# Altium integrated library Linear Technology Operational Amplifiers (LT1000).IntLib: 2280 symbols (part 9 of 79)
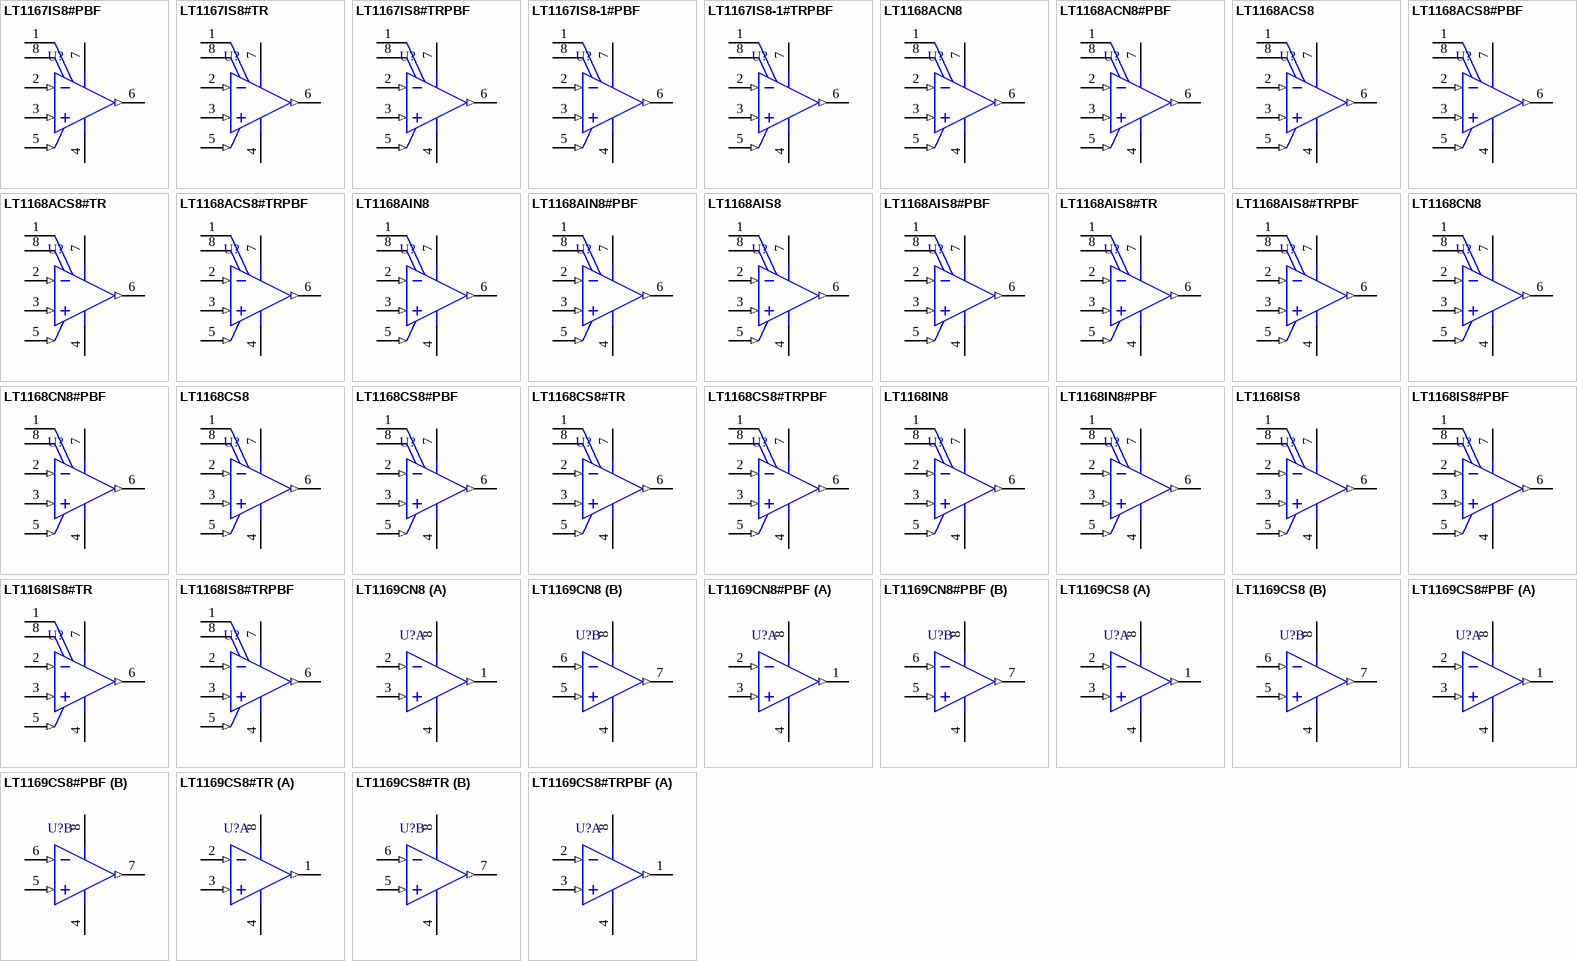
[diagram p113: symbols LT1167IS8#PBF to LT1169CS8#TRPBF]

## LT1168IN8#PBF
designator U?
Single Channel, Low Bias Current, Low Power, Precision Operational Amplifier, 0.4 MHz Typical GBW, 0.5 V/us Typical SR, 4.6 to 40 V, 8-Pin DIP (N8-8), Industrial, Pb-Free; Linear Technology Part Number: LT1168; Manufacturer: Linear Technology; PartNumber: LT1168IN8#PBF; Channels (#): 1; GBW (MHz) Typical: 0.4; Is (mA) Typical: 0.35; SR (V/us) Typical: 0.5; Vos (mV) Typical: 0.015; Vs Max (V): 40; Vs Min (V): 4.6; DatasheetVersion: Rev. A; PackageVersion: Rev I; PackageReference: LT-N8-8; PackageDescription: 8-Lead PDIP, Body 10.16 x 6.48 mm, Pitch 2.54 mm; Supplier 1: Digi-Key; Supplier Part Number 1: LT1168IN8#PBF-ND; RoHS: Pb-Free; Type: IA; Mounting Technology: Surface Mount; ComponentLink1Description: Manufacturer URL; ComponentLink1URL: http://www.linear.com/; ComponentLink2Description: Datasheet; ComponentLink2URL: http://cds.linear.com/docs/en/datasheet/1168fa.pdf; ComponentLink3Description: Package Specification; ComponentLink3URL: http://cds.linear.com/docs/en/packaging/05081510_I_N8.pdf
footprint LT-N8-8 (DIP, 8-Leads, Body 10.16x6.48mm, Pitch 2.54mm)
pins: 1 RG, 2 -IN (in), 3 +IN (in), 4 -VS (power), 5 REF (in), 6 OUTPUT (out), 7 +VS (power), 8 RG

## LT1168IS8
designator U?
Single Channel, Low Bias Current, Low Power, Precision Operational Amplifier, 0.4 MHz Typical GBW, 0.5 V/us Typical SR, 4.6 to 40 V, 8-Pin SOIC (S8-8), Industrial; Linear Technology Part Number: LT1168; Manufacturer: Linear Technology; PartNumber: LT1168IS8; Channels (#): 1; GBW (MHz) Typical: 0.4; Is (mA) Typical: 0.35; SR (V/us) Typical: 0.5; Vos (mV) Typical: 0.015; Vs Max (V): 40; Vs Min (V): 4.6; DatasheetVersion: Rev. A; PackageVersion: Rev G; PackageReference: LT-S8-8; PackageDescription: 8-Pin Plastic Small Outline, Body 4.9 x 3.9 mm, Pitch 1.27 mm; Supplier 1: Digi-Key; Supplier Part Number 1: LT1168IS8-ND; Type: IA; Mounting Technology: Surface Mount; ComponentLink1Description: Manufacturer URL; ComponentLink1URL: http://www.linear.com/; ComponentLink2Description: Datasheet; ComponentLink2URL: http://cds.linear.com/docs/en/datasheet/1168fa.pdf; ComponentLink3Description: Package Specification; ComponentLink3URL: http://cds.linear.com/docs/en/packaging/05081610_G_SO8.pdf
footprint LT-S8-8_N (SOIC, 8-Leads, Body 4.9x3.9mm, Pitch 1.27mm, IPC Medium Density)
footprint LT-S8-8_L (SOIC, 8-Leads, Body 4.9x3.9mm, Pitch 1.27mm, IPC High Density)
footprint LT-S8-8_M (SOIC, 8-Leads, Body 4.9x3.9mm, Pitch 1.27mm, IPC Low Density)
pins: 1 RG, 2 -IN (in), 3 +IN (in), 4 -VS (power), 5 REF (in), 6 OUTPUT (out), 7 +VS (power), 8 RG

## LT1168IS8#PBF
designator U?
Single Channel, Low Bias Current, Low Power, Precision Operational Amplifier, 0.4 MHz Typical GBW, 0.5 V/us Typical SR, 4.6 to 40 V, 8-Pin SOIC (S8-8), Industrial, Pb-Free; Linear Technology Part Number: LT1168; Manufacturer: Linear Technology; PartNumber: LT1168IS8#PBF; Channels (#): 1; GBW (MHz) Typical: 0.4; Is (mA) Typical: 0.35; SR (V/us) Typical: 0.5; Vos (mV) Typical: 0.015; Vs Max (V): 40; Vs Min (V): 4.6; DatasheetVersion: Rev. A; PackageVersion: Rev G; PackageReference: LT-S8-8; PackageDescription: 8-Pin Plastic Small Outline, Body 4.9 x 3.9 mm, Pitch 1.27 mm; Supplier 1: Digi-Key; Supplier Part Number 1: LT1168IS8#PBF-ND; RoHS: Pb-Free; Type: IA; Mounting Technology: Surface Mount; ComponentLink1Description: Manufacturer URL; ComponentLink1URL: http://www.linear.com/; ComponentLink2Description: Datasheet; ComponentLink2URL: http://cds.linear.com/docs/en/datasheet/1168fa.pdf; ComponentLink3Description: Package Specification; ComponentLink3URL: http://cds.linear.com/docs/en/packaging/05081610_G_SO8.pdf
footprint LT-S8-8_N (SOIC, 8-Leads, Body 4.9x3.9mm, Pitch 1.27mm, IPC Medium Density)
footprint LT-S8-8_L (SOIC, 8-Leads, Body 4.9x3.9mm, Pitch 1.27mm, IPC High Density)
footprint LT-S8-8_M (SOIC, 8-Leads, Body 4.9x3.9mm, Pitch 1.27mm, IPC Low Density)
pins: 1 RG, 2 -IN (in), 3 +IN (in), 4 -VS (power), 5 REF (in), 6 OUTPUT (out), 7 +VS (power), 8 RG

## LT1168IS8#TR
designator U?
Single Channel, Low Bias Current, Low Power, Precision Operational Amplifier, 0.4 MHz Typical GBW, 0.5 V/us Typical SR, 4.6 to 40 V, 8-Pin SOIC (S8-8), Industrial, Reel; Linear Technology Part Number: LT1168; Manufacturer: Linear Technology; PartNumber: LT1168IS8#TR; Channels (#): 1; GBW (MHz) Typical: 0.4; Is (mA) Typical: 0.35; SR (V/us) Typical: 0.5; Vos (mV) Typical: 0.015; Vs Max (V): 40; Vs Min (V): 4.6; DatasheetVersion: Rev. A; PackageVersion: Rev G; PackageReference: LT-S8-8; PackageDescription: 8-Pin Plastic Small Outline, Body 4.9 x 3.9 mm, Pitch 1.27 mm; Supplier 1: Digi-Key; Supplier Part Number 1: LT1168IS8#TR-ND; Packing: Reel; Type: IA; Mounting Technology: Surface Mount; ComponentLink1Description: Manufacturer URL; ComponentLink1URL: http://www.linear.com/; ComponentLink2Description: Datasheet; ComponentLink2URL: http://cds.linear.com/docs/en/datasheet/1168fa.pdf; ComponentLink3Description: Package Specification; ComponentLink3URL: http://cds.linear.com/docs/en/packaging/05081610_G_SO8.pdf
footprint LT-S8-8_N (SOIC, 8-Leads, Body 4.9x3.9mm, Pitch 1.27mm, IPC Medium Density)
footprint LT-S8-8_L (SOIC, 8-Leads, Body 4.9x3.9mm, Pitch 1.27mm, IPC High Density)
footprint LT-S8-8_M (SOIC, 8-Leads, Body 4.9x3.9mm, Pitch 1.27mm, IPC Low Density)
pins: 1 RG, 2 -IN (in), 3 +IN (in), 4 -VS (power), 5 REF (in), 6 OUTPUT (out), 7 +VS (power), 8 RG

## LT1168IS8#TRPBF
designator U?
Single Channel, Low Bias Current, Low Power, Precision Operational Amplifier, 0.4 MHz Typical GBW, 0.5 V/us Typical SR, 4.6 to 40 V, 8-Pin SOIC (S8-8), Industrial, Pb-Free, Reel; Linear Technology Part Number: LT1168; Manufacturer: Linear Technology; PartNumber: LT1168IS8#TRPBF; Channels (#): 1; GBW (MHz) Typical: 0.4; Is (mA) Typical: 0.35; SR (V/us) Typical: 0.5; Vos (mV) Typical: 0.015; Vs Max (V): 40; Vs Min (V): 4.6; DatasheetVersion: Rev. A; PackageVersion: Rev G; PackageReference: LT-S8-8; PackageDescription: 8-Pin Plastic Small Outline, Body 4.9 x 3.9 mm, Pitch 1.27 mm; Supplier 1: Digi-Key; Supplier Part Number 1: LT1168IS8#TRPBF-ND; Packing: Reel; RoHS: Pb-Free; Type: IA; Mounting Technology: Surface Mount; ComponentLink1Description: Manufacturer URL; ComponentLink1URL: http://www.linear.com/; ComponentLink2Description: Datasheet; ComponentLink2URL: http://cds.linear.com/docs/en/datasheet/1168fa.pdf; ComponentLink3Description: Package Specification; ComponentLink3URL: http://cds.linear.com/docs/en/packaging/05081610_G_SO8.pdf
footprint LT-S8-8_N (SOIC, 8-Leads, Body 4.9x3.9mm, Pitch 1.27mm, IPC Medium Density)
footprint LT-S8-8_L (SOIC, 8-Leads, Body 4.9x3.9mm, Pitch 1.27mm, IPC High Density)
footprint LT-S8-8_M (SOIC, 8-Leads, Body 4.9x3.9mm, Pitch 1.27mm, IPC Low Density)
pins: 1 RG, 2 -IN (in), 3 +IN (in), 4 -VS (power), 5 REF (in), 6 OUTPUT (out), 7 +VS (power), 8 RG

## LT1169CN8
designator U?
Dual Channel, Low Noise JFET Operational Amplifier, 5.3 MHz Typical GBW, 4.2 V/us Typical SR, 9 to 40 V, 8-Pin DIP (N8-8), Commerical; Linear Technology Part Number: LT1169; Manufacturer: Linear Technology; PartNumber: LT1169CN8; Channels (#): 2; GBW (MHz) Typical: 5.3; SR (V/us) Typical: 4.2; Vos (mV) Typical: 0.6; Vs Max (V): 40; Vs Min (V): 9; DatasheetVersion: Rev. A; PackageVersion: Rev I; PackageReference: LT-N8-8; PackageDescription: 8-Lead PDIP, Body 10.16 x 6.48 mm, Pitch 2.54 mm; Supplier 1: Digi-Key; Supplier Part Number 1: LT1169CN8-ND; Is (mA) Typical: 5.3; Type: VFB; Mounting Technology: Surface Mount; ComponentLink1Description: Manufacturer URL; ComponentLink1URL: http://www.linear.com/; ComponentLink2Description: Datasheet; ComponentLink2URL: http://cds.linear.com/docs/en/datasheet/1169fa.pdf; ComponentLink3Description: Package Specification; ComponentLink3URL: http://cds.linear.com/docs/en/packaging/05081510_I_N8.pdf
footprint LT-N8-8 (DIP, 8-Leads, Body 10.16x6.48mm, Pitch 2.54mm)
pins on every part: 4 V- (power), 8 V+ (power)
part A pins: 1 OUT A (out), 2 -IN A (in), 3 +IN A (in)
part B pins: 5 +IN B (in), 6 -IN B (in), 7 OUT B (out)

## LT1169CN8#PBF
designator U?
Dual Channel, Low Noise JFET Operational Amplifier, 5.3 MHz Typical GBW, 4.2 V/us Typical SR, 9 to 40 V, 8-Pin DIP (N8-8), Commerical, Pb-Free; Linear Technology Part Number: LT1169; Manufacturer: Linear Technology; PartNumber: LT1169CN8#PBF; Channels (#): 2; GBW (MHz) Typical: 5.3; SR (V/us) Typical: 4.2; Vos (mV) Typical: 0.6; Vs Max (V): 40; Vs Min (V): 9; DatasheetVersion: Rev. A; PackageVersion: Rev I; PackageReference: LT-N8-8; PackageDescription: 8-Lead PDIP, Body 10.16 x 6.48 mm, Pitch 2.54 mm; Supplier 1: Digi-Key; Supplier Part Number 1: LT1169CN8#PBF-ND; Supplier 2: Newark; Supplier Part Number 2: 57M2339; Is (mA) Typical: 5.3; RoHS: Pb-Free; Type: VFB; Mounting Technology: Surface Mount; ComponentLink1Description: Manufacturer URL; ComponentLink1URL: http://www.linear.com/; ComponentLink2Description: Datasheet; ComponentLink2URL: http://cds.linear.com/docs/en/datasheet/1169fa.pdf; ComponentLink3Description: Package Specification; ComponentLink3URL: http://cds.linear.com/docs/en/packaging/05081510_I_N8.pdf
footprint LT-N8-8 (DIP, 8-Leads, Body 10.16x6.48mm, Pitch 2.54mm)
pins on every part: 4 V- (power), 8 V+ (power)
part A pins: 1 OUT A (out), 2 -IN A (in), 3 +IN A (in)
part B pins: 5 +IN B (in), 6 -IN B (in), 7 OUT B (out)

## LT1169CS8
designator U?
Dual Channel, Low Noise JFET Operational Amplifier, 5.3 MHz Typical GBW, 4.2 V/us Typical SR, 9 to 40 V, 8-Pin SOIC (S8-8), Commerical; Linear Technology Part Number: LT1169; Manufacturer: Linear Technology; PartNumber: LT1169CS8; Channels (#): 2; GBW (MHz) Typical: 5.3; SR (V/us) Typical: 4.2; Vos (mV) Typical: 0.6; Vs Max (V): 40; Vs Min (V): 9; DatasheetVersion: Rev. A; PackageVersion: Rev G; PackageReference: LT-S8-8; PackageDescription: 8-Pin Plastic Small Outline, Body 4.9 x 3.9 mm, Pitch 1.27 mm; Supplier 1: Digi-Key; Supplier Part Number 1: LT1169CS8-ND; Is (mA) Typical: 5.3; Type: VFB; Mounting Technology: Surface Mount; ComponentLink1Description: Manufacturer URL; ComponentLink1URL: http://www.linear.com/; ComponentLink2Description: Datasheet; ComponentLink2URL: http://cds.linear.com/docs/en/datasheet/1169fa.pdf; ComponentLink3Description: Package Specification; ComponentLink3URL: http://cds.linear.com/docs/en/packaging/05081610_G_SO8.pdf
footprint LT-S8-8_N (SOIC, 8-Leads, Body 4.9x3.9mm, Pitch 1.27mm, IPC Medium Density)
footprint LT-S8-8_L (SOIC, 8-Leads, Body 4.9x3.9mm, Pitch 1.27mm, IPC High Density)
footprint LT-S8-8_M (SOIC, 8-Leads, Body 4.9x3.9mm, Pitch 1.27mm, IPC Low Density)
pins on every part: 4 V- (power), 8 V+ (power)
part A pins: 1 OUT A (out), 2 -IN A (in), 3 +IN A (in)
part B pins: 5 +IN B (in), 6 -IN B (in), 7 OUT B (out)

## LT1169CS8#PBF
designator U?
Dual Channel, Low Noise JFET Operational Amplifier, 5.3 MHz Typical GBW, 4.2 V/us Typical SR, 9 to 40 V, 8-Pin SOIC (S8-8), Commerical, Pb-Free; Linear Technology Part Number: LT1169; Manufacturer: Linear Technology; PartNumber: LT1169CS8#PBF; Channels (#): 2; GBW (MHz) Typical: 5.3; SR (V/us) Typical: 4.2; Vos (mV) Typical: 0.6; Vs Max (V): 40; Vs Min (V): 9; DatasheetVersion: Rev. A; PackageVersion: Rev G; PackageReference: LT-S8-8; PackageDescription: 8-Pin Plastic Small Outline, Body 4.9 x 3.9 mm, Pitch 1.27 mm; Supplier 1: Digi-Key; Supplier Part Number 1: LT1169CS8#PBF-ND; Supplier 2: Newark; Supplier Part Number 2: 57M2341; Is (mA) Typical: 5.3; RoHS: Pb-Free; Type: VFB; Mounting Technology: Surface Mount; ComponentLink1Description: Manufacturer URL; ComponentLink1URL: http://www.linear.com/; ComponentLink2Description: Datasheet; ComponentLink2URL: http://cds.linear.com/docs/en/datasheet/1169fa.pdf; ComponentLink3Description: Package Specification; ComponentLink3URL: http://cds.linear.com/docs/en/packaging/05081610_G_SO8.pdf
footprint LT-S8-8_N (SOIC, 8-Leads, Body 4.9x3.9mm, Pitch 1.27mm, IPC Medium Density)
footprint LT-S8-8_L (SOIC, 8-Leads, Body 4.9x3.9mm, Pitch 1.27mm, IPC High Density)
footprint LT-S8-8_M (SOIC, 8-Leads, Body 4.9x3.9mm, Pitch 1.27mm, IPC Low Density)
pins on every part: 4 V- (power), 8 V+ (power)
part A pins: 1 OUT A (out), 2 -IN A (in), 3 +IN A (in)
part B pins: 5 +IN B (in), 6 -IN B (in), 7 OUT B (out)

## LT1169CS8#TR
designator U?
Dual Channel, Low Noise JFET Operational Amplifier, 5.3 MHz Typical GBW, 4.2 V/us Typical SR, 9 to 40 V, 8-Pin SOIC (S8-8), Commerical, Reel; Linear Technology Part Number: LT1169; Manufacturer: Linear Technology; PartNumber: LT1169CS8#TR; Channels (#): 2; GBW (MHz) Typical: 5.3; SR (V/us) Typical: 4.2; Vos (mV) Typical: 0.6; Vs Max (V): 40; Vs Min (V): 9; DatasheetVersion: Rev. A; PackageVersion: Rev G; PackageReference: LT-S8-8; PackageDescription: 8-Pin Plastic Small Outline, Body 4.9 x 3.9 mm, Pitch 1.27 mm; Supplier 1: Digi-Key; Supplier Part Number 1: LT1169CS8#TR-ND; Is (mA) Typical: 5.3; Packing: Reel; Type: VFB; Mounting Technology: Surface Mount; ComponentLink1Description: Manufacturer URL; ComponentLink1URL: http://www.linear.com/; ComponentLink2Description: Datasheet; ComponentLink2URL: http://cds.linear.com/docs/en/datasheet/1169fa.pdf; ComponentLink3Description: Package Specification; ComponentLink3URL: http://cds.linear.com/docs/en/packaging/05081610_G_SO8.pdf
footprint LT-S8-8_N (SOIC, 8-Leads, Body 4.9x3.9mm, Pitch 1.27mm, IPC Medium Density)
footprint LT-S8-8_L (SOIC, 8-Leads, Body 4.9x3.9mm, Pitch 1.27mm, IPC High Density)
footprint LT-S8-8_M (SOIC, 8-Leads, Body 4.9x3.9mm, Pitch 1.27mm, IPC Low Density)
pins on every part: 4 V- (power), 8 V+ (power)
part A pins: 1 OUT A (out), 2 -IN A (in), 3 +IN A (in)
part B pins: 5 +IN B (in), 6 -IN B (in), 7 OUT B (out)

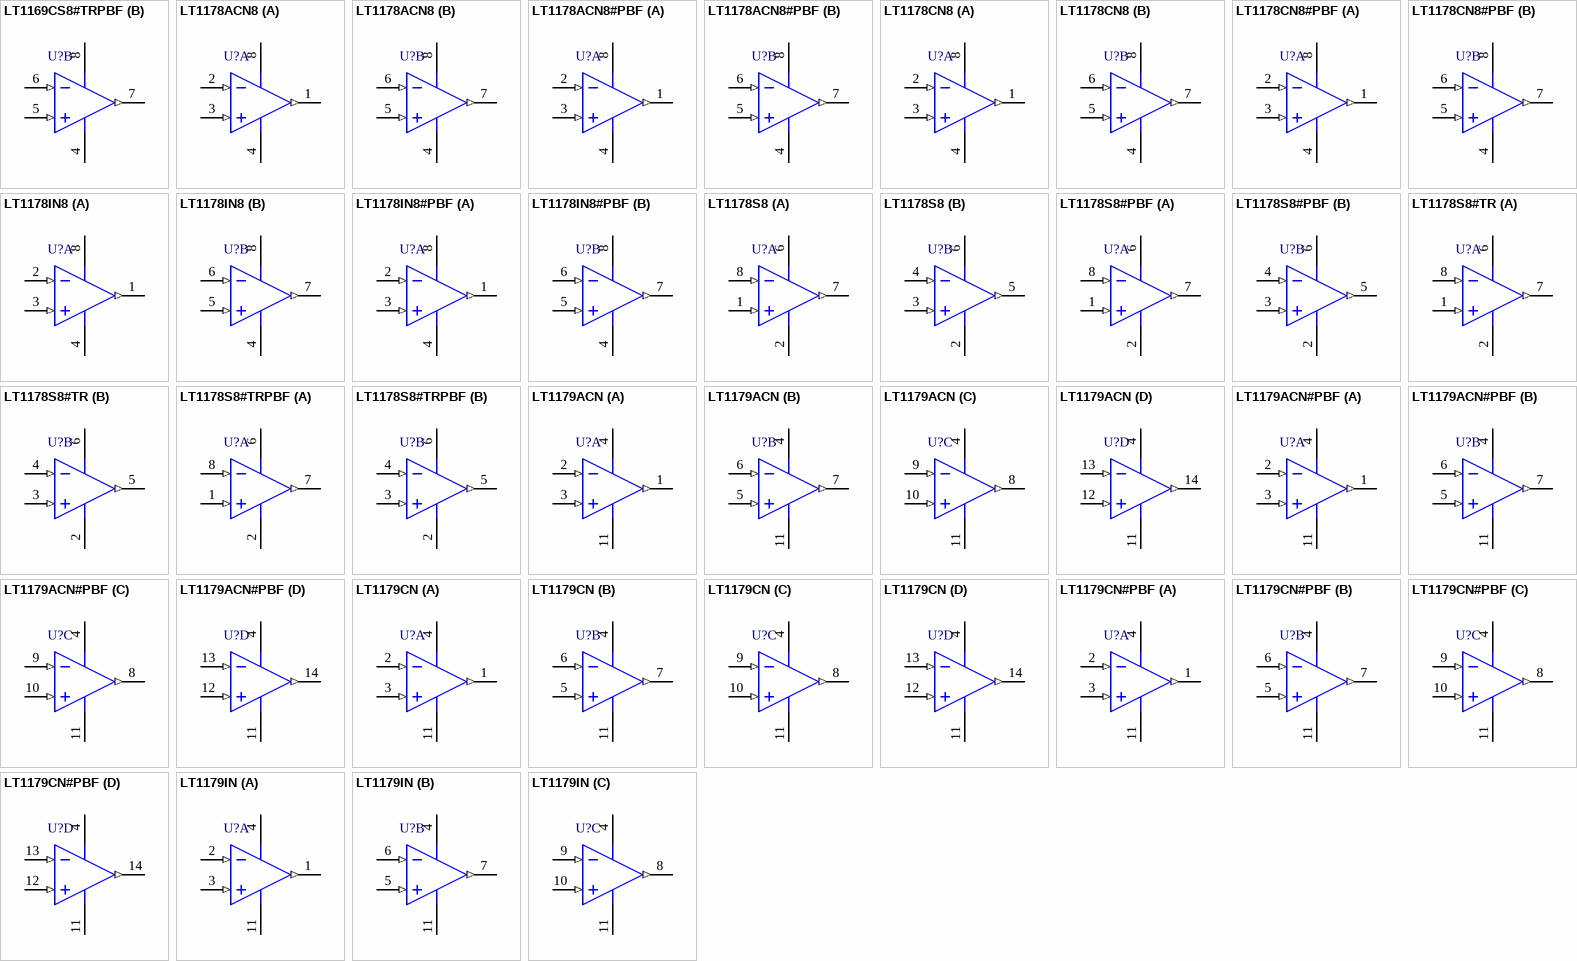
[diagram p11: symbols LT1169CS8#TRPBF to LT1179IN]

## LT1169CS8#TRPBF
designator U?
Dual Channel, Low Noise JFET Operational Amplifier, 5.3 MHz Typical GBW, 4.2 V/us Typical SR, 9 to 40 V, 8-Pin SOIC (S8-8), Commerical, Pb-Free, Reel; Linear Technology Part Number: LT1169; Manufacturer: Linear Technology; PartNumber: LT1169CS8#TRPBF; Channels (#): 2; GBW (MHz) Typical: 5.3; SR (V/us) Typical: 4.2; Vos (mV) Typical: 0.6; Vs Max (V): 40; Vs Min (V): 9; DatasheetVersion: Rev. A; PackageVersion: Rev G; PackageReference: LT-S8-8; PackageDescription: 8-Pin Plastic Small Outline, Body 4.9 x 3.9 mm, Pitch 1.27 mm; Supplier 1: Digi-Key; Supplier Part Number 1: LT1169CS8#TRPBF-ND; Is (mA) Typical: 5.3; Packing: Reel; RoHS: Pb-Free; Type: VFB; Mounting Technology: Surface Mount; ComponentLink1Description: Manufacturer URL; ComponentLink1URL: http://www.linear.com/; ComponentLink2Description: Datasheet; ComponentLink2URL: http://cds.linear.com/docs/en/datasheet/1169fa.pdf; ComponentLink3Description: Package Specification; ComponentLink3URL: http://cds.linear.com/docs/en/packaging/05081610_G_SO8.pdf
footprint LT-S8-8_N (SOIC, 8-Leads, Body 4.9x3.9mm, Pitch 1.27mm, IPC Medium Density)
footprint LT-S8-8_L (SOIC, 8-Leads, Body 4.9x3.9mm, Pitch 1.27mm, IPC High Density)
footprint LT-S8-8_M (SOIC, 8-Leads, Body 4.9x3.9mm, Pitch 1.27mm, IPC Low Density)
pins on every part: 4 V- (power), 8 V+ (power)
part A pins: 1 OUT A (out), 2 -IN A (in), 3 +IN A (in)
part B pins: 5 +IN B (in), 6 -IN B (in), 7 OUT B (out)

## LT1178ACN8
designator U?
Dual Channel, Precision Single Supply Operational Amplifier, 0.085 MHz Typical GBW, 0.04 V/us Typical SR, 2 to 44 V, 8-Pin DIP (N8-8), Commerical; Linear Technology Part Number: LT1178; Manufacturer: Linear Technology; PartNumber: LT1178ACN8; Channels (#): 2; GBW (MHz) Typical: 0.085; Is (mA) Typical: 0.012; SR (V/us) Typical: 0.04; Vos (mV) Typical: 0.03; Vs Max (V): 44; DatasheetVersion: Rev. B; PackageVersion: Rev I; PackageReference: LT-N8-8; PackageDescription: 8-Lead PDIP, Body 10.16 x 6.48 mm, Pitch 2.54 mm; Supplier 1: Digi-Key; Supplier Part Number 1: LT1178ACN8-ND; Type: VFB; Vs Min (V): 2; Mounting Technology: Surface Mount; ComponentLink1Description: Manufacturer URL; ComponentLink1URL: http://www.linear.com/; ComponentLink2Description: Datasheet; ComponentLink2URL: http://cds.linear.com/docs/en/datasheet/11789fb.pdf; ComponentLink3Description: Package Specification; ComponentLink3URL: http://cds.linear.com/docs/en/packaging/05081510_I_N8.pdf
footprint LT-N8-8 (DIP, 8-Leads, Body 10.16x6.48mm, Pitch 2.54mm)
pins on every part: 4 V- (power), 8 V+ (power)
part A pins: 1 OUT A (out), 2 -IN A (in), 3 +IN A (in)
part B pins: 5 +IN B (in), 6 -IN B (in), 7 OUT B (out)

## LT1178ACN8#PBF
designator U?
Dual Channel, Precision Single Supply Operational Amplifier, 0.085 MHz Typical GBW, 0.04 V/us Typical SR, 2 to 44 V, 8-Pin DIP (N8-8), Commerical, Pb-Free; Linear Technology Part Number: LT1178; Manufacturer: Linear Technology; PartNumber: LT1178ACN8#PBF; Channels (#): 2; GBW (MHz) Typical: 0.085; Is (mA) Typical: 0.012; SR (V/us) Typical: 0.04; Vos (mV) Typical: 0.03; Vs Max (V): 44; DatasheetVersion: Rev. B; PackageVersion: Rev I; PackageReference: LT-N8-8; PackageDescription: 8-Lead PDIP, Body 10.16 x 6.48 mm, Pitch 2.54 mm; Supplier 1: Digi-Key; Supplier Part Number 1: LT1178ACN8#PBF-ND; RoHS: Pb-Free; Type: VFB; Vs Min (V): 2; Mounting Technology: Through Hole; ComponentLink1Description: Manufacturer URL; ComponentLink1URL: http://www.linear.com/; ComponentLink2Description: Datasheet; ComponentLink2URL: http://cds.linear.com/docs/en/datasheet/11789fb.pdf; ComponentLink3Description: Package Specification; ComponentLink3URL: http://cds.linear.com/docs/en/packaging/05081510_I_N8.pdf
footprint LT-N8-8 (DIP, 8-Leads, Body 10.16x6.48mm, Pitch 2.54mm)
pins on every part: 4 V- (power), 8 V+ (power)
part A pins: 1 OUT A (out), 2 -IN A (in), 3 +IN A (in)
part B pins: 5 +IN B (in), 6 -IN B (in), 7 OUT B (out)

## LT1178CN8
designator U?
Dual Channel, Precision Single Supply Operational Amplifier, 0.085 MHz Typical GBW, 0.04 V/us Typical SR, 2 to 44 V, 8-Pin DIP (N8-8), Commerical; Linear Technology Part Number: LT1178; Manufacturer: Linear Technology; PartNumber: LT1178CN8; Channels (#): 2; GBW (MHz) Typical: 0.085; Is (mA) Typical: 0.012; SR (V/us) Typical: 0.04; Vos (mV) Typical: 0.03; Vs Max (V): 44; DatasheetVersion: Rev. B; PackageVersion: Rev I; PackageReference: LT-N8-8; PackageDescription: 8-Lead PDIP, Body 10.16 x 6.48 mm, Pitch 2.54 mm; Supplier 1: Digi-Key; Supplier Part Number 1: LT1178CN8-ND; Supplier 2: Newark; Supplier Part Number 2: 57M2509; Type: VFB; Vs Min (V): 2; Mounting Technology: Through Hole; ComponentLink1Description: Manufacturer URL; ComponentLink1URL: http://www.linear.com/; ComponentLink2Description: Datasheet; ComponentLink2URL: http://cds.linear.com/docs/en/datasheet/11789fb.pdf; ComponentLink3Description: Package Specification; ComponentLink3URL: http://cds.linear.com/docs/en/packaging/05081510_I_N8.pdf
footprint LT-N8-8 (DIP, 8-Leads, Body 10.16x6.48mm, Pitch 2.54mm)
pins on every part: 4 V- (power), 8 V+ (power)
part A pins: 1 OUT A (out), 2 -IN A (in), 3 +IN A (in)
part B pins: 5 +IN B (in), 6 -IN B (in), 7 OUT B (out)

## LT1178CN8#PBF
designator U?
Dual Channel, Precision Single Supply Operational Amplifier, 0.085 MHz Typical GBW, 0.04 V/us Typical SR, 2 to 44 V, 8-Pin DIP (N8-8), Commerical, Pb-Free; Linear Technology Part Number: LT1178; Manufacturer: Linear Technology; PartNumber: LT1178CN8#PBF; Channels (#): 2; GBW (MHz) Typical: 0.085; Is (mA) Typical: 0.012; SR (V/us) Typical: 0.04; Vos (mV) Typical: 0.03; Vs Max (V): 44; DatasheetVersion: Rev. B; PackageVersion: Rev I; PackageReference: LT-N8-8; PackageDescription: 8-Lead PDIP, Body 10.16 x 6.48 mm, Pitch 2.54 mm; Supplier 1: Digi-Key; Supplier Part Number 1: LT1178CN8#PBF-ND; Supplier 2: Newark; Supplier Part Number 2: 57M2510; RoHS: Pb-Free; Type: VFB; Vs Min (V): 2; Mounting Technology: Through Hole; ComponentLink1Description: Manufacturer URL; ComponentLink1URL: http://www.linear.com/; ComponentLink2Description: Datasheet; ComponentLink2URL: http://cds.linear.com/docs/en/datasheet/11789fb.pdf; ComponentLink3Description: Package Specification; ComponentLink3URL: http://cds.linear.com/docs/en/packaging/05081510_I_N8.pdf
footprint LT-N8-8 (DIP, 8-Leads, Body 10.16x6.48mm, Pitch 2.54mm)
pins on every part: 4 V- (power), 8 V+ (power)
part A pins: 1 OUT A (out), 2 -IN A (in), 3 +IN A (in)
part B pins: 5 +IN B (in), 6 -IN B (in), 7 OUT B (out)

## LT1178IN8
designator U?
Dual Channel, Precision Single Supply Operational Amplifier, 0.085 MHz Typical GBW, 0.04 V/us Typical SR, 2 to 44 V, 8-Pin DIP (N8), Industrial; Linear Technology Part Number: LT1178; Manufacturer: Linear Technology; PartNumber: LT1178IN8; Channels (#): 2; GBW (MHz) Typical: 0.085; Is (mA) Typical: 0.012; SR (V/us) Typical: 0.04; Vos (mV) Typical: 0.03; Vs Max (V): 44; DatasheetVersion: Rev. B; PackageReference: LT-N8; PackageDescription: 8-Lead PDIP, Row Spacing 7.62, Pitch 2.54 mm; Supplier 1: Digi-Key; Supplier Part Number 1: LT1178IN8-ND; Type: VFB; Vs Min (V): 2; Mounting Technology: Through Hole; ComponentLink1Description: Manufacturer URL; ComponentLink1URL: http://www.linear.com/; ComponentLink2Description: Datasheet; ComponentLink2URL: http://cds.linear.com/docs/en/datasheet/11789fb.pdf; ComponentLink3Description: Package Specification; ComponentLink3URL: http://cds.linear.com/docs/en/packaging/05081510_I_N8.pdf
footprint LT-N8 (DIP, 8-Leads, Body 10.16x6.477mm, Pitch 2.54mm)
pins on every part: 4 V- (power), 8 V+ (power)
part A pins: 1 OUT A (out), 2 -IN A (in), 3 +IN A (in)
part B pins: 5 +IN B (in), 6 -IN B (in), 7 OUT B (out)

## LT1178IN8#PBF
designator U?
Dual Channel, Precision Single Supply Operational Amplifier, 0.085 MHz Typical GBW, 0.04 V/us Typical SR, 2 to 44 V, 8-Pin DIP (N8), Industrial, Pb-Free; Linear Technology Part Number: LT1178; Manufacturer: Linear Technology; PartNumber: LT1178IN8#PBF; Channels (#): 2; GBW (MHz) Typical: 0.085; Is (mA) Typical: 0.012; SR (V/us) Typical: 0.04; Vos (mV) Typical: 0.03; Vs Max (V): 44; DatasheetVersion: Rev. B; PackageReference: LT-N8; PackageDescription: 8-Lead PDIP, Row Spacing 7.62, Pitch 2.54 mm; Supplier 1: Digi-Key; Supplier Part Number 1: LT1178IN8#PBF-ND; Supplier 2: Newark; Supplier Part Number 2: 57M2512; RoHS: Pb-Free; Type: VFB; Vs Min (V): 2; Mounting Technology: Through Hole; ComponentLink1Description: Manufacturer URL; ComponentLink1URL: http://www.linear.com/; ComponentLink2Description: Datasheet; ComponentLink2URL: http://cds.linear.com/docs/en/datasheet/11789fb.pdf; ComponentLink3Description: Package Specification; ComponentLink3URL: http://cds.linear.com/docs/en/packaging/05081510_I_N8.pdf
footprint LT-N8 (DIP, 8-Leads, Body 10.16x6.477mm, Pitch 2.54mm)
pins on every part: 4 V- (power), 8 V+ (power)
part A pins: 1 OUT A (out), 2 -IN A (in), 3 +IN A (in)
part B pins: 5 +IN B (in), 6 -IN B (in), 7 OUT B (out)

## LT1178S8
designator U?
Dual Channel, Precision Single Supply Operational Amplifier, 0.085 MHz Typical GBW, 0.04 V/us Typical SR, 2 to 44 V, 8-Pin SOIC (S8-8), Commerical; Linear Technology Part Number: LT1178; Manufacturer: Linear Technology; PartNumber: LT1178S8; Channels (#): 2; GBW (MHz) Typical: 0.085; Is (mA) Typical: 0.012; SR (V/us) Typical: 0.04; Vos (mV) Typical: 0.03; Vs Max (V): 44; DatasheetVersion: Rev. B; PackageVersion: Rev G; PackageReference: LT-S8-8; PackageDescription: 8-Pin Plastic Small Outline, Body 4.9 x 3.9 mm, Pitch 1.27 mm; Supplier 1: Digi-Key; Supplier Part Number 1: LT1178S8-ND; Type: VFB; Vs Min (V): 2; Mounting Technology: Surface Mount; ComponentLink1Description: Manufacturer URL; ComponentLink1URL: http://www.linear.com/; ComponentLink2Description: Datasheet; ComponentLink2URL: http://cds.linear.com/docs/en/datasheet/11789fb.pdf; ComponentLink3Description: Package Specification; ComponentLink3URL: http://cds.linear.com/docs/en/packaging/05081610_G_SO8.pdf
footprint LT-S8-8_N (SOIC, 8-Leads, Body 4.9x3.9mm, Pitch 1.27mm, IPC Medium Density)
footprint LT-S8-8_L (SOIC, 8-Leads, Body 4.9x3.9mm, Pitch 1.27mm, IPC High Density)
footprint LT-S8-8_M (SOIC, 8-Leads, Body 4.9x3.9mm, Pitch 1.27mm, IPC Low Density)
pins on every part: 2 V- (power), 6 V+ (power)
part A pins: 1 +IN A (in), 7 OUT A (out), 8 -IN A (in)
part B pins: 3 +IN B (in), 4 -IN B (in), 5 OUT B (out)

## LT1178S8#PBF
designator U?
Dual Channel, Precision Single Supply Operational Amplifier, 0.085 MHz Typical GBW, 0.04 V/us Typical SR, 2 to 44 V, 8-Pin SOIC (S8-8), Commerical, Pb-Free; Linear Technology Part Number: LT1178; Manufacturer: Linear Technology; PartNumber: LT1178S8#PBF; Channels (#): 2; GBW (MHz) Typical: 0.085; Is (mA) Typical: 0.012; SR (V/us) Typical: 0.04; Vos (mV) Typical: 0.03; Vs Max (V): 44; DatasheetVersion: Rev. B; PackageVersion: Rev G; PackageReference: LT-S8-8; PackageDescription: 8-Pin Plastic Small Outline, Body 4.9 x 3.9 mm, Pitch 1.27 mm; Supplier 1: Digi-Key; Supplier Part Number 1: LT1178S8#PBF-ND; Supplier 2: Newark; Supplier Part Number 2: 57M2518; RoHS: Pb-Free; Type: VFB; Vs Min (V): 2; Mounting Technology: Surface Mount; ComponentLink1Description: Manufacturer URL; ComponentLink1URL: http://www.linear.com/; ComponentLink2Description: Datasheet; ComponentLink2URL: http://cds.linear.com/docs/en/datasheet/11789fb.pdf; ComponentLink3Description: Package Specification; ComponentLink3URL: http://cds.linear.com/docs/en/packaging/05081610_G_SO8.pdf
footprint LT-S8-8_N (SOIC, 8-Leads, Body 4.9x3.9mm, Pitch 1.27mm, IPC Medium Density)
footprint LT-S8-8_L (SOIC, 8-Leads, Body 4.9x3.9mm, Pitch 1.27mm, IPC High Density)
footprint LT-S8-8_M (SOIC, 8-Leads, Body 4.9x3.9mm, Pitch 1.27mm, IPC Low Density)
pins on every part: 2 V- (power), 6 V+ (power)
part A pins: 1 +IN A (in), 7 OUT A (out), 8 -IN A (in)
part B pins: 3 +IN B (in), 4 -IN B (in), 5 OUT B (out)

## LT1178S8#TR
designator U?
Dual Channel, Precision Single Supply Operational Amplifier, 0.085 MHz Typical GBW, 0.04 V/us Typical SR, 2 to 44 V, 8-Pin SOIC (S8-8), Commerical, Reel; Linear Technology Part Number: LT1178; Manufacturer: Linear Technology; PartNumber: LT1178S8#TR; Channels (#): 2; GBW (MHz) Typical: 0.085; Is (mA) Typical: 0.012; SR (V/us) Typical: 0.04; Vos (mV) Typical: 0.03; Vs Max (V): 44; DatasheetVersion: Rev. B; PackageVersion: Rev G; PackageReference: LT-S8-8; PackageDescription: 8-Pin Plastic Small Outline, Body 4.9 x 3.9 mm, Pitch 1.27 mm; Supplier 1: Digi-Key; Supplier Part Number 1: LT1178S8#TR-ND; Packing: Reel; Type: VFB; Vs Min (V): 2; Mounting Technology: Surface Mount; ComponentLink1Description: Manufacturer URL; ComponentLink1URL: http://www.linear.com/; ComponentLink2Description: Datasheet; ComponentLink2URL: http://cds.linear.com/docs/en/datasheet/11789fb.pdf; ComponentLink3Description: Package Specification; ComponentLink3URL: http://cds.linear.com/docs/en/packaging/05081610_G_SO8.pdf
footprint LT-S8-8_N (SOIC, 8-Leads, Body 4.9x3.9mm, Pitch 1.27mm, IPC Medium Density)
footprint LT-S8-8_L (SOIC, 8-Leads, Body 4.9x3.9mm, Pitch 1.27mm, IPC High Density)
footprint LT-S8-8_M (SOIC, 8-Leads, Body 4.9x3.9mm, Pitch 1.27mm, IPC Low Density)
pins on every part: 2 V- (power), 6 V+ (power)
part A pins: 1 +IN A (in), 7 OUT A (out), 8 -IN A (in)
part B pins: 3 +IN B (in), 4 -IN B (in), 5 OUT B (out)

## LT1178S8#TRPBF
designator U?
Dual Channel, Precision Single Supply Operational Amplifier, 0.085 MHz Typical GBW, 0.04 V/us Typical SR, 2 to 44 V, 8-Pin SOIC (S8-8), Commerical, Pb-Free, Reel; Linear Technology Part Number: LT1178; Manufacturer: Linear Technology; PartNumber: LT1178S8#TRPBF; Channels (#): 2; GBW (MHz) Typical: 0.085; Is (mA) Typical: 0.012; SR (V/us) Typical: 0.04; Vos (mV) Typical: 0.03; Vs Max (V): 44; DatasheetVersion: Rev. B; PackageVersion: Rev G; PackageReference: LT-S8-8; PackageDescription: 8-Pin Plastic Small Outline, Body 4.9 x 3.9 mm, Pitch 1.27 mm; Supplier 1: Digi-Key; Supplier Part Number 1: LT1178S8#TRPBF-ND; Packing: Reel; RoHS: Pb-Free; Type: VFB; Vs Min (V): 2; Mounting Technology: Surface Mount; ComponentLink1Description: Manufacturer URL; ComponentLink1URL: http://www.linear.com/; ComponentLink2Description: Datasheet; ComponentLink2URL: http://cds.linear.com/docs/en/datasheet/11789fb.pdf; ComponentLink3Description: Package Specification; ComponentLink3URL: http://cds.linear.com/docs/en/packaging/05081610_G_SO8.pdf
footprint LT-S8-8_N (SOIC, 8-Leads, Body 4.9x3.9mm, Pitch 1.27mm, IPC Medium Density)
footprint LT-S8-8_L (SOIC, 8-Leads, Body 4.9x3.9mm, Pitch 1.27mm, IPC High Density)
footprint LT-S8-8_M (SOIC, 8-Leads, Body 4.9x3.9mm, Pitch 1.27mm, IPC Low Density)
pins on every part: 2 V- (power), 6 V+ (power)
part A pins: 1 +IN A (in), 7 OUT A (out), 8 -IN A (in)
part B pins: 3 +IN B (in), 4 -IN B (in), 5 OUT B (out)

## LT1179ACN
designator U?
Quad Channel, Precision Single Supply Operational Amplifier, 0.085 MHz Typical GBW, 0.04 V/us Typical SR, 2 to 44 V, 14-Pin DIP (N-14), Commerical; Linear Technology Part Number: LT1179; Manufacturer: Linear Technology; PartNumber: LT1179ACN; Channels (#): 4; GBW (MHz) Typical: 0.085; Is (mA) Typical: 0.012; SR (V/us) Typical: 0.04; Vos (mV) Typical: 0.035; Vs Max (V): 44; Vs Min (V): 2; DatasheetVersion: Rev. B; PackageVersion: Rev I; PackageReference: LT-N-14; PackageDescription: 14-Lead PDIP, Body 19.558 x 6.477 mm, Pitch 2.54 mm; Supplier 1: Digi-Key; Supplier Part Number 1: LT1179ACN-ND; Type: VFB; Mounting Technology: Surface Mount; ComponentLink1Description: Manufacturer URL; ComponentLink1URL: http://www.linear.com/; ComponentLink2Description: Datasheet; ComponentLink2URL: http://cds.linear.com/docs/en/datasheet/11789fb.pdf; ComponentLink3Description: Package Specification; ComponentLink3URL: http://cds.linear.com/docs/en/packaging/05081510_I_N14.pdf
footprint LT-N-14 (DIP, 14-Leads, Body 19.558x6.477mm, Pitch 2.54mm)
pins on every part: 4 V+ (power), 11 V- (power)
part A pins: 1 OUT A (out), 2 -IN A (in), 3 +IN A (in)
part B pins: 5 +IN B (in), 6 -IN B (in), 7 OUT B (out)
part C pins: 8 OUT C (out), 9 -IN C (in), 10 +IN C (in)
part D pins: 12 +IN D (in), 13 -IN D (in), 14 OUT D (out)

## LT1179ACN#PBF
designator U?
Quad Channel, Precision Single Supply Operational Amplifier, 0.085 MHz Typical GBW, 0.04 V/us Typical SR, 2 to 44 V, 14-Pin DIP (N-14), Commerical, Pb-Free; Linear Technology Part Number: LT1179; Manufacturer: Linear Technology; PartNumber: LT1179ACN#PBF; Channels (#): 4; GBW (MHz) Typical: 0.085; Is (mA) Typical: 0.012; SR (V/us) Typical: 0.04; Vos (mV) Typical: 0.035; Vs Max (V): 44; Vs Min (V): 2; DatasheetVersion: Rev. B; PackageVersion: Rev I; PackageReference: LT-N-14; PackageDescription: 14-Lead PDIP, Body 19.558 x 6.477 mm, Pitch 2.54 mm; Supplier 1: Digi-Key; Supplier Part Number 1: LT1179ACN#PBF-ND; RoHS: Pb-Free; Type: VFB; Mounting Technology: Through Hole; ComponentLink1Description: Manufacturer URL; ComponentLink1URL: http://www.linear.com/; ComponentLink2Description: Datasheet; ComponentLink2URL: http://cds.linear.com/docs/en/datasheet/11789fb.pdf; ComponentLink3Description: Package Specification; ComponentLink3URL: http://cds.linear.com/docs/en/packaging/05081510_I_N14.pdf
footprint LT-N-14 (DIP, 14-Leads, Body 19.558x6.477mm, Pitch 2.54mm)
pins on every part: 4 V+ (power), 11 V- (power)
part A pins: 1 OUT A (out), 2 -IN A (in), 3 +IN A (in)
part B pins: 5 +IN B (in), 6 -IN B (in), 7 OUT B (out)
part C pins: 8 OUT C (out), 9 -IN C (in), 10 +IN C (in)
part D pins: 12 +IN D (in), 13 -IN D (in), 14 OUT D (out)

## LT1179CN
designator U?
Quad Channel, Precision Single Supply Operational Amplifier, 0.085 MHz Typical GBW, 0.04 V/us Typical SR, 2 to 44 V, 14-Pin DIP (N-14), Commerical; Linear Technology Part Number: LT1179; Manufacturer: Linear Technology; PartNumber: LT1179CN; Channels (#): 4; GBW (MHz) Typical: 0.085; Is (mA) Typical: 0.012; SR (V/us) Typical: 0.04; Vos (mV) Typical: 0.035; Vs Max (V): 44; Vs Min (V): 2; DatasheetVersion: Rev. B; PackageVersion: Rev I; PackageReference: LT-N-14; PackageDescription: 14-Lead PDIP, Body 19.558 x 6.477 mm, Pitch 2.54 mm; Supplier 1: Digi-Key; Supplier Part Number 1: LT1179CN-ND; Type: VFB; Mounting Technology: Through Hole; ComponentLink1Description: Manufacturer URL; ComponentLink1URL: http://www.linear.com/; ComponentLink2Description: Datasheet; ComponentLink2URL: http://cds.linear.com/docs/en/datasheet/11789fb.pdf; ComponentLink3Description: Package Specification; ComponentLink3URL: http://cds.linear.com/docs/en/packaging/05081510_I_N14.pdf
footprint LT-N-14 (DIP, 14-Leads, Body 19.558x6.477mm, Pitch 2.54mm)
pins on every part: 4 V+ (power), 11 V- (power)
part A pins: 1 OUT A (out), 2 -IN A (in), 3 +IN A (in)
part B pins: 5 +IN B (in), 6 -IN B (in), 7 OUT B (out)
part C pins: 8 OUT C (out), 9 -IN C (in), 10 +IN C (in)
part D pins: 12 +IN D (in), 13 -IN D (in), 14 OUT D (out)

## LT1179CN#PBF
designator U?
Quad Channel, Precision Single Supply Operational Amplifier, 0.085 MHz Typical GBW, 0.04 V/us Typical SR, 2 to 44 V, 14-Pin DIP (N-14), Commerical, Pb-Free; Linear Technology Part Number: LT1179; Manufacturer: Linear Technology; PartNumber: LT1179CN#PBF; Channels (#): 4; GBW (MHz) Typical: 0.085; Is (mA) Typical: 0.012; SR (V/us) Typical: 0.04; Vos (mV) Typical: 0.035; Vs Max (V): 44; Vs Min (V): 2; DatasheetVersion: Rev. B; PackageVersion: Rev I; PackageReference: LT-N-14; PackageDescription: 14-Lead PDIP, Body 19.558 x 6.477 mm, Pitch 2.54 mm; Supplier 1: Digi-Key; Supplier Part Number 1: LT1179CN#PBF-ND; Supplier 2: Newark; Supplier Part Number 2: 57M2524; RoHS: Pb-Free; Type: VFB; Mounting Technology: Surface Mount; ComponentLink1Description: Manufacturer URL; ComponentLink1URL: http://www.linear.com/; ComponentLink2Description: Datasheet; ComponentLink2URL: http://cds.linear.com/docs/en/datasheet/11789fb.pdf; ComponentLink3Description: Package Specification; ComponentLink3URL: http://cds.linear.com/docs/en/packaging/05081510_I_N14.pdf
footprint LT-N-14 (DIP, 14-Leads, Body 19.558x6.477mm, Pitch 2.54mm)
pins on every part: 4 V+ (power), 11 V- (power)
part A pins: 1 OUT A (out), 2 -IN A (in), 3 +IN A (in)
part B pins: 5 +IN B (in), 6 -IN B (in), 7 OUT B (out)
part C pins: 8 OUT C (out), 9 -IN C (in), 10 +IN C (in)
part D pins: 12 +IN D (in), 13 -IN D (in), 14 OUT D (out)

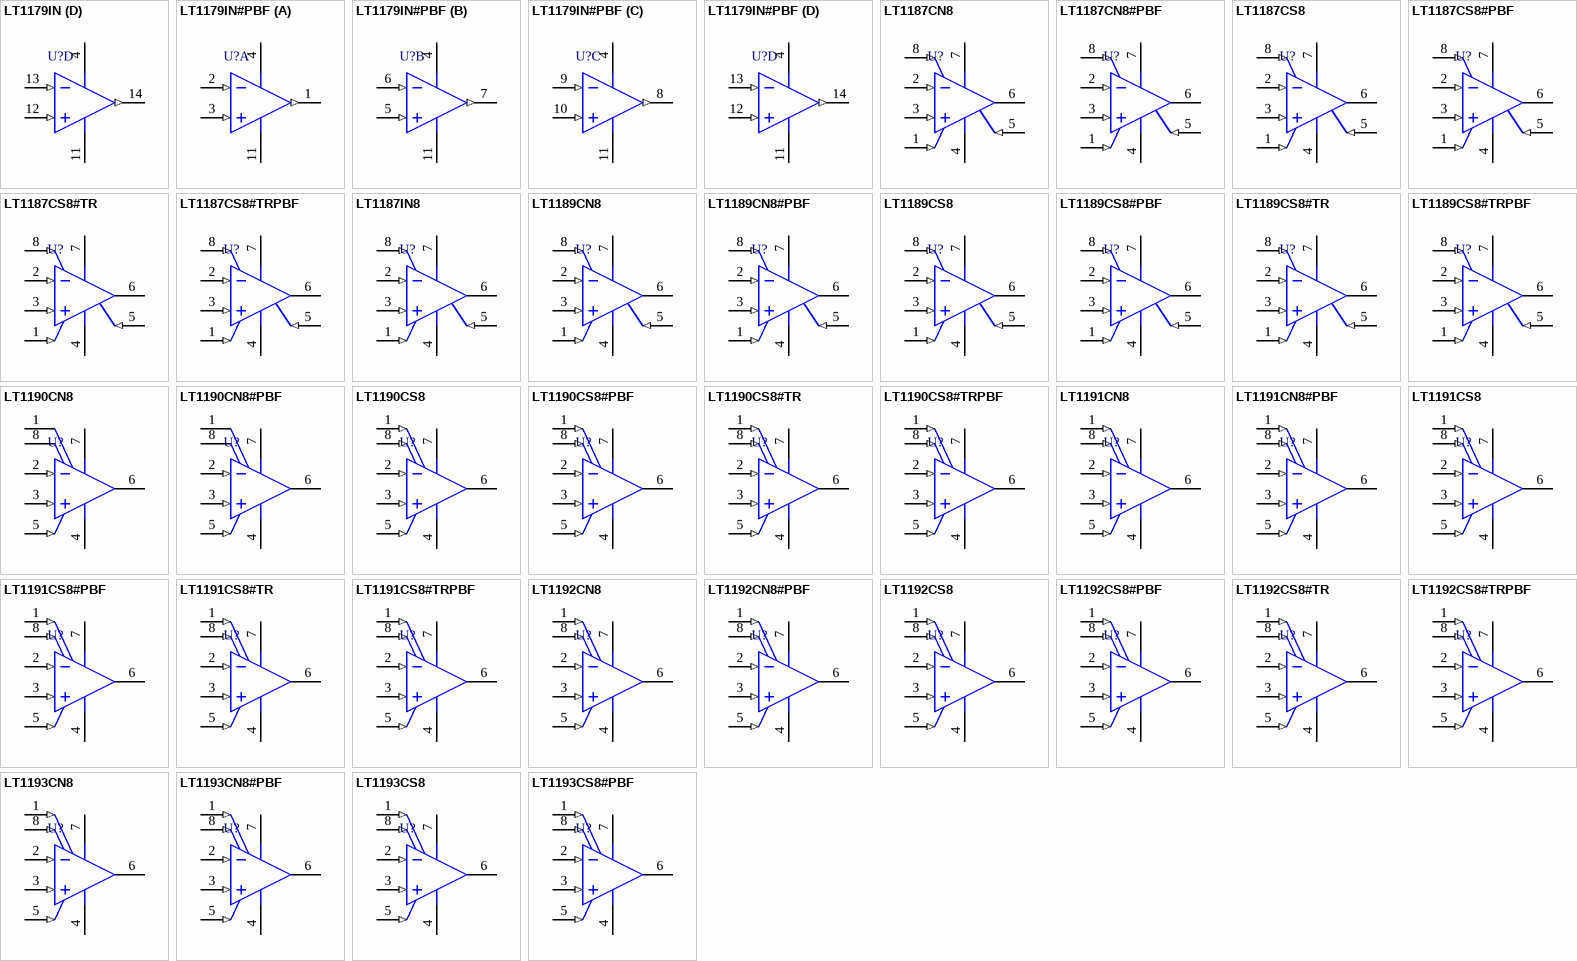
[diagram p12: symbols LT1179IN to LT1193CS8#PBF]

## LT1179IN
designator U?
Quad Channel, Precision Single Supply Operational Amplifier, 0.085 MHz Typical GBW, 0.04 V/us Typical SR, 2 to 44 V, 14-Pin DIP (N-14), Industrial; Linear Technology Part Number: LT1179; Manufacturer: Linear Technology; PartNumber: LT1179IN; Channels (#): 4; GBW (MHz) Typical: 0.085; Is (mA) Typical: 0.012; SR (V/us) Typical: 0.04; Vos (mV) Typical: 0.035; Vs Max (V): 44; Vs Min (V): 2; DatasheetVersion: Rev. B; PackageVersion: Rev I; PackageReference: LT-N-14; PackageDescription: 14-Lead PDIP, Body 19.558 x 6.477 mm, Pitch 2.54 mm; Supplier 1: Digi-Key; Supplier Part Number 1: LT1179IN-ND; Type: VFB; Mounting Technology: Surface Mount; ComponentLink1Description: Manufacturer URL; ComponentLink1URL: http://www.linear.com/; ComponentLink2Description: Datasheet; ComponentLink2URL: http://cds.linear.com/docs/en/datasheet/11789fb.pdf; ComponentLink3Description: Package Specification; ComponentLink3URL: http://cds.linear.com/docs/en/packaging/05081510_I_N14.pdf
footprint LT-N-14 (DIP, 14-Leads, Body 19.558x6.477mm, Pitch 2.54mm)
pins on every part: 4 V+ (power), 11 V- (power)
part A pins: 1 OUT A (out), 2 -IN A (in), 3 +IN A (in)
part B pins: 5 +IN B (in), 6 -IN B (in), 7 OUT B (out)
part C pins: 8 OUT C (out), 9 -IN C (in), 10 +IN C (in)
part D pins: 12 +IN D (in), 13 -IN D (in), 14 OUT D (out)

## LT1179IN#PBF
designator U?
Quad Channel, Precision Single Supply Operational Amplifier, 0.085 MHz Typical GBW, 0.04 V/us Typical SR, 2 to 44 V, 14-Pin DIP (N-14), Industrial, Pb-Free; Linear Technology Part Number: LT1179; Manufacturer: Linear Technology; PartNumber: LT1179IN#PBF; Channels (#): 4; GBW (MHz) Typical: 0.085; Is (mA) Typical: 0.012; SR (V/us) Typical: 0.04; Vos (mV) Typical: 0.035; Vs Max (V): 44; Vs Min (V): 2; DatasheetVersion: Rev. B; PackageVersion: Rev I; PackageReference: LT-N-14; PackageDescription: 14-Lead PDIP, Body 19.558 x 6.477 mm, Pitch 2.54 mm; Supplier 1: Digi-Key; Supplier Part Number 1: LT1179IN#PBF-ND; RoHS: Pb-Free; Type: VFB; Mounting Technology: Through Hole; ComponentLink1Description: Manufacturer URL; ComponentLink1URL: http://www.linear.com/; ComponentLink2Description: Datasheet; ComponentLink2URL: http://cds.linear.com/docs/en/datasheet/11789fb.pdf; ComponentLink3Description: Package Specification; ComponentLink3URL: http://cds.linear.com/docs/en/packaging/05081510_I_N14.pdf
footprint LT-N-14 (DIP, 14-Leads, Body 19.558x6.477mm, Pitch 2.54mm)
pins on every part: 4 V+ (power), 11 V- (power)
part A pins: 1 OUT A (out), 2 -IN A (in), 3 +IN A (in)
part B pins: 5 +IN B (in), 6 -IN B (in), 7 OUT B (out)
part C pins: 8 OUT C (out), 9 -IN C (in), 10 +IN C (in)
part D pins: 12 +IN D (in), 13 -IN D (in), 14 OUT D (out)

## LT1187CN8
designator U?
Single Channel, Low Power Video Differential Amplifier, 50 MHz Typical GBW, 165 V/us Typical SR, 4 to 18 V, 8-Pin DIP (N8-8), Commercial, Reel; Linear Technology Part Number: LT1187; Manufacturer: Linear Technology; PartNumber: LT1187CN8; Channels (#): 1; GBW (MHz) Typical: 50; Is (mA) Typical: 13; SR (V/us) Typical: 165; Vos (mV) Typical: 2; Vs Max (V): 18; Vs Min (V): 4; DatasheetVersion: Rev. A; PackageVersion: Rev I; PackageReference: LT-N8-8; PackageDescription: 8-Lead PDIP, Body 10.16 x 6.48 mm, Pitch 2.54 mm; Supplier 1: Digi-Key; Supplier Part Number 1: LT1187CN8-ND; Packing: Reel; Type: VIDEO; Mounting Technology: Surface Mount; ComponentLink1Description: Manufacturer URL; ComponentLink1URL: http://www.linear.com/; ComponentLink2Description: Datasheet; ComponentLink2URL: http://cds.linear.com/docs/en/datasheet/1187fa.pdf; ComponentLink3Description: Package Specification; ComponentLink3URL: http://cds.linear.com/docs/en/packaging/05081510_I_N8.pdf
footprint LT-N8-8 (DIP, 8-Leads, Body 10.16x6.48mm, Pitch 2.54mm)
pins: 1 +/REF (in), 2 -IN (in), 3 +IN (in), 4 V- (power), 5 S/D (in), 6 OUT (hiz), 7 V+ (power), 8 -/FB (in)

## LT1187CN8#PBF
designator U?
Single Channel, Low Power Video Differential Amplifier, 50 MHz Typical GBW, 165 V/us Typical SR, 4 to 18 V, 8-Pin DIP (N8-8), Commercial, Pb-Free; Linear Technology Part Number: LT1187; Manufacturer: Linear Technology; PartNumber: LT1187CN8#PBF; Channels (#): 1; GBW (MHz) Typical: 50; Is (mA) Typical: 13; SR (V/us) Typical: 165; Vos (mV) Typical: 2; Vs Max (V): 18; Vs Min (V): 4; DatasheetVersion: Rev. A; PackageVersion: Rev I; PackageReference: LT-N8-8; PackageDescription: 8-Lead PDIP, Body 10.16 x 6.48 mm, Pitch 2.54 mm; Supplier 1: Digi-Key; Supplier Part Number 1: LT1187CN8#PBF-ND; RoHS: Pb-Free; Type: VIDEO; Mounting Technology: Through Hole; ComponentLink1Description: Manufacturer URL; ComponentLink1URL: http://www.linear.com/; ComponentLink2Description: Datasheet; ComponentLink2URL: http://cds.linear.com/docs/en/datasheet/1187fa.pdf; ComponentLink3Description: Package Specification; ComponentLink3URL: http://cds.linear.com/docs/en/packaging/05081510_I_N8.pdf
footprint LT-N8-8 (DIP, 8-Leads, Body 10.16x6.48mm, Pitch 2.54mm)
pins: 1 +/REF (in), 2 -IN (in), 3 +IN (in), 4 V- (power), 5 S/D (in), 6 OUT (hiz), 7 V+ (power), 8 -/FB (in)

## LT1187CS8
designator U?
Single Channel, Low Power Video Differential Amplifier, 50 MHz Typical GBW, 165 V/us Typical SR, 4 to 18 V, 8-Pin SOIC (S8-8), Commercial; Linear Technology Part Number: LT1187; Manufacturer: Linear Technology; PartNumber: LT1187CS8; Channels (#): 1; GBW (MHz) Typical: 50; Is (mA) Typical: 13; SR (V/us) Typical: 165; Vos (mV) Typical: 2; Vs Max (V): 18; Vs Min (V): 4; DatasheetVersion: Rev. A; PackageVersion: Rev G; PackageReference: LT-S8-8; PackageDescription: 8-Pin Plastic Small Outline, Body 4.9 x 3.9 mm, Pitch 1.27 mm; Supplier 1: Digi-Key; Supplier Part Number 1: LT1187CS8-ND; Type: VIDEO; Mounting Technology: Surface Mount; ComponentLink1Description: Manufacturer URL; ComponentLink1URL: http://www.linear.com/; ComponentLink2Description: Datasheet; ComponentLink2URL: http://cds.linear.com/docs/en/datasheet/1187fa.pdf; ComponentLink3Description: Package Specification; ComponentLink3URL: http://cds.linear.com/docs/en/packaging/05081610_G_SO8.pdf
footprint LT-S8-8_N (SOIC, 8-Leads, Body 4.9x3.9mm, Pitch 1.27mm, IPC Medium Density)
footprint LT-S8-8_L (SOIC, 8-Leads, Body 4.9x3.9mm, Pitch 1.27mm, IPC High Density)
footprint LT-S8-8_M (SOIC, 8-Leads, Body 4.9x3.9mm, Pitch 1.27mm, IPC Low Density)
pins: 1 +/REF (in), 2 -IN (in), 3 +IN (in), 4 V- (power), 5 S/D (in), 6 OUT (hiz), 7 V+ (power), 8 -/FB (in)

## LT1187CS8#PBF
designator U?
Single Channel, Low Power Video Differential Amplifier, 50 MHz Typical GBW, 165 V/us Typical SR, 4 to 18 V, 8-Pin SOIC (S8-8), Commercial, Pb-Free; Linear Technology Part Number: LT1187; Manufacturer: Linear Technology; PartNumber: LT1187CS8#PBF; Channels (#): 1; GBW (MHz) Typical: 50; Is (mA) Typical: 13; SR (V/us) Typical: 165; Vos (mV) Typical: 2; Vs Max (V): 18; Vs Min (V): 4; DatasheetVersion: Rev. A; PackageVersion: Rev G; PackageReference: LT-S8-8; PackageDescription: 8-Pin Plastic Small Outline, Body 4.9 x 3.9 mm, Pitch 1.27 mm; Supplier 1: Digi-Key; Supplier Part Number 1: LT1187CS8#PBF-ND; RoHS: Pb-Free; Type: VIDEO; Mounting Technology: Surface Mount; ComponentLink1Description: Manufacturer URL; ComponentLink1URL: http://www.linear.com/; ComponentLink2Description: Datasheet; ComponentLink2URL: http://cds.linear.com/docs/en/datasheet/1187fa.pdf; ComponentLink3Description: Package Specification; ComponentLink3URL: http://cds.linear.com/docs/en/packaging/05081610_G_SO8.pdf
footprint LT-S8-8_N (SOIC, 8-Leads, Body 4.9x3.9mm, Pitch 1.27mm, IPC Medium Density)
footprint LT-S8-8_L (SOIC, 8-Leads, Body 4.9x3.9mm, Pitch 1.27mm, IPC High Density)
footprint LT-S8-8_M (SOIC, 8-Leads, Body 4.9x3.9mm, Pitch 1.27mm, IPC Low Density)
pins: 1 +/REF (in), 2 -IN (in), 3 +IN (in), 4 V- (power), 5 S/D (in), 6 OUT (hiz), 7 V+ (power), 8 -/FB (in)

## LT1187CS8#TR
designator U?
Single Channel, Low Power Video Differential Amplifier, 50 MHz Typical GBW, 165 V/us Typical SR, 4 to 18 V, 8-Pin SOIC (S8-8), Commercial, Reel; Linear Technology Part Number: LT1187; Manufacturer: Linear Technology; PartNumber: LT1187CS8#TR; Channels (#): 1; GBW (MHz) Typical: 50; Is (mA) Typical: 13; SR (V/us) Typical: 165; Vos (mV) Typical: 2; Vs Max (V): 18; Vs Min (V): 4; DatasheetVersion: Rev. A; PackageVersion: Rev G; PackageReference: LT-S8-8; PackageDescription: 8-Pin Plastic Small Outline, Body 4.9 x 3.9 mm, Pitch 1.27 mm; Supplier 1: Digi-Key; Supplier Part Number 1: LT1187CS8#TR-ND; Packing: Reel; Type: VIDEO; Mounting Technology: Surface Mount; ComponentLink1Description: Manufacturer URL; ComponentLink1URL: http://www.linear.com/; ComponentLink2Description: Datasheet; ComponentLink2URL: http://cds.linear.com/docs/en/datasheet/1187fa.pdf; ComponentLink3Description: Package Specification; ComponentLink3URL: http://cds.linear.com/docs/en/packaging/05081610_G_SO8.pdf
footprint LT-S8-8_N (SOIC, 8-Leads, Body 4.9x3.9mm, Pitch 1.27mm, IPC Medium Density)
footprint LT-S8-8_L (SOIC, 8-Leads, Body 4.9x3.9mm, Pitch 1.27mm, IPC High Density)
footprint LT-S8-8_M (SOIC, 8-Leads, Body 4.9x3.9mm, Pitch 1.27mm, IPC Low Density)
pins: 1 +/REF (in), 2 -IN (in), 3 +IN (in), 4 V- (power), 5 S/D (in), 6 OUT (hiz), 7 V+ (power), 8 -/FB (in)

## LT1187CS8#TRPBF
designator U?
Single Channel, Low Power Video Differential Amplifier, 50 MHz Typical GBW, 165 V/us Typical SR, 4 to 18 V, 8-Pin SOIC (S8-8), Commercial, Pb-Free, Reel; Linear Technology Part Number: LT1187; Manufacturer: Linear Technology; PartNumber: LT1187CS8#TRPBF; Channels (#): 1; GBW (MHz) Typical: 50; Is (mA) Typical: 13; SR (V/us) Typical: 165; Vos (mV) Typical: 2; Vs Max (V): 18; Vs Min (V): 4; DatasheetVersion: Rev. A; PackageVersion: Rev G; PackageReference: LT-S8-8; PackageDescription: 8-Pin Plastic Small Outline, Body 4.9 x 3.9 mm, Pitch 1.27 mm; Supplier 1: Digi-Key; Supplier Part Number 1: LT1187CS8#TRPBF-ND; Packing: Reel; RoHS: Pb-Free; Type: VIDEO; Mounting Technology: Surface Mount; ComponentLink1Description: Manufacturer URL; ComponentLink1URL: http://www.linear.com/; ComponentLink2Description: Datasheet; ComponentLink2URL: http://cds.linear.com/docs/en/datasheet/1187fa.pdf; ComponentLink3Description: Package Specification; ComponentLink3URL: http://cds.linear.com/docs/en/packaging/05081610_G_SO8.pdf
footprint LT-S8-8_N (SOIC, 8-Leads, Body 4.9x3.9mm, Pitch 1.27mm, IPC Medium Density)
footprint LT-S8-8_L (SOIC, 8-Leads, Body 4.9x3.9mm, Pitch 1.27mm, IPC High Density)
footprint LT-S8-8_M (SOIC, 8-Leads, Body 4.9x3.9mm, Pitch 1.27mm, IPC Low Density)
pins: 1 +/REF (in), 2 -IN (in), 3 +IN (in), 4 V- (power), 5 S/D (in), 6 OUT (hiz), 7 V+ (power), 8 -/FB (in)

## LT1187IN8
designator U?
Single Channel, Low Power Video Differential Amplifier, 50 MHz Typical GBW, 165 V/us Typical SR, 4 to 18 V, 8-Pin DIP (N8-8), Industrial; Linear Technology Part Number: LT1187; Manufacturer: Linear Technology; PartNumber: LT1187IN8; Channels (#): 1; GBW (MHz) Typical: 50; Is (mA) Typical: 13; SR (V/us) Typical: 165; Vos (mV) Typical: 2; Vs Max (V): 18; Vs Min (V): 4; DatasheetVersion: Rev. A; PackageVersion: Rev I; PackageReference: LT-N8-8; PackageDescription: 8-Lead PDIP, Body 10.16 x 6.48 mm, Pitch 2.54 mm; Type: VIDEO; Mounting Technology: Surface Mount; ComponentLink1Description: Manufacturer URL; ComponentLink1URL: http://www.linear.com/; ComponentLink2Description: Datasheet; ComponentLink2URL: http://cds.linear.com/docs/en/datasheet/1187fa.pdf; ComponentLink3Description: Package Specification; ComponentLink3URL: http://cds.linear.com/docs/en/packaging/05081510_I_N8.pdf
footprint LT-N8-8 (DIP, 8-Leads, Body 10.16x6.48mm, Pitch 2.54mm)
pins: 1 +/REF (in), 2 -IN (in), 3 +IN (in), 4 V- (power), 5 S/D (in), 6 OUT (hiz), 7 V+ (power), 8 -/FB (in)

## LT1189CN8
designator U?
Single Channel, Low Power Video Differential Amplifier, 180 MHz Typical GBW, 220 V/us Typical SR, 4 to 18 V, 8-Pin DIP (N8-8), Commercial; Linear Technology Part Number: LT1189; Manufacturer: Linear Technology; PartNumber: LT1189CN8; Channels (#): 1; GBW (MHz) Typical: 180; Is (mA) Typical: 13; SR (V/us) Typical: 220; Vs Max (V): 18; Vs Min (V): 4; DatasheetVersion: Rev. 0; PackageVersion: Rev I; PackageReference: LT-N8-8; PackageDescription: 8-Lead PDIP, Body 10.16 x 6.48 mm, Pitch 2.54 mm; Supplier 1: Digi-Key; Supplier Part Number 1: LT1189CN8-ND; Type: VIDEO; Vos (mV) Typical: 1; Mounting Technology: Through Hole; ComponentLink1Description: Manufacturer URL; ComponentLink1URL: http://www.linear.com/; ComponentLink2Description: Datasheet; ComponentLink2URL: http://cds.linear.com/docs/en/datasheet/lt1189.pdf; ComponentLink3Description: Package Specification; ComponentLink3URL: http://cds.linear.com/docs/en/packaging/05081510_I_N8.pdf
footprint LT-N8-8 (DIP, 8-Leads, Body 10.16x6.48mm, Pitch 2.54mm)
pins: 1 +/REF (in), 2 -IN (in), 3 +IN (in), 4 V- (power), 5 S/D (in), 6 OUT (hiz), 7 V+ (power), 8 -/FB (in)

## LT1189CN8#PBF
designator U?
Single Channel, Low Power Video Differential Amplifier, 180 MHz Typical GBW, 220 V/us Typical SR, 4 to 18 V, 8-Pin DIP (N8-8), Commercial, Pb-Free; Linear Technology Part Number: LT1189; Manufacturer: Linear Technology; PartNumber: LT1189CN8#PBF; Channels (#): 1; GBW (MHz) Typical: 180; Is (mA) Typical: 13; SR (V/us) Typical: 220; Vs Max (V): 18; Vs Min (V): 4; DatasheetVersion: Rev. 0; PackageVersion: Rev I; PackageReference: LT-N8-8; PackageDescription: 8-Lead PDIP, Body 10.16 x 6.48 mm, Pitch 2.54 mm; Supplier 1: Digi-Key; Supplier Part Number 1: LT1189CN8#PBF-ND; RoHS: Pb-Free; Type: VIDEO; Vos (mV) Typical: 1; Mounting Technology: Through Hole; ComponentLink1Description: Manufacturer URL; ComponentLink1URL: http://www.linear.com/; ComponentLink2Description: Datasheet; ComponentLink2URL: http://cds.linear.com/docs/en/datasheet/lt1189.pdf; ComponentLink3Description: Package Specification; ComponentLink3URL: http://cds.linear.com/docs/en/packaging/05081510_I_N8.pdf
footprint LT-N8-8 (DIP, 8-Leads, Body 10.16x6.48mm, Pitch 2.54mm)
pins: 1 +/REF (in), 2 -IN (in), 3 +IN (in), 4 V- (power), 5 S/D (in), 6 OUT (hiz), 7 V+ (power), 8 -/FB (in)

## LT1189CS8
designator U?
Single Channel, Low Power Video Differential Amplifier, 180 MHz Typical GBW, 220 V/us Typical SR, 4 to 18 V, 8-Pin SOIC (S8-8), Commercial; Linear Technology Part Number: LT1189; Manufacturer: Linear Technology; PartNumber: LT1189CS8; Channels (#): 1; GBW (MHz) Typical: 180; Is (mA) Typical: 13; SR (V/us) Typical: 220; Vs Max (V): 18; Vs Min (V): 4; DatasheetVersion: Rev. 0; PackageVersion: Rev G; PackageReference: LT-S8-8; PackageDescription: 8-Pin Plastic Small Outline, Body 4.9 x 3.9 mm, Pitch 1.27 mm; Supplier 1: Digi-Key; Supplier Part Number 1: LT1189CS8-ND; Type: VIDEO; Vos (mV) Typical: 1; Mounting Technology: Surface Mount; ComponentLink1Description: Manufacturer URL; ComponentLink1URL: http://www.linear.com/; ComponentLink2Description: Datasheet; ComponentLink2URL: http://cds.linear.com/docs/en/datasheet/lt1189.pdf; ComponentLink3Description: Package Specification; ComponentLink3URL: http://cds.linear.com/docs/en/packaging/05081610_G_SO8.pdf
footprint LT-S8-8_N (SOIC, 8-Leads, Body 4.9x3.9mm, Pitch 1.27mm, IPC Medium Density)
footprint LT-S8-8_L (SOIC, 8-Leads, Body 4.9x3.9mm, Pitch 1.27mm, IPC High Density)
footprint LT-S8-8_M (SOIC, 8-Leads, Body 4.9x3.9mm, Pitch 1.27mm, IPC Low Density)
pins: 1 +/REF (in), 2 -IN (in), 3 +IN (in), 4 V- (power), 5 S/D (in), 6 OUT (hiz), 7 V+ (power), 8 -/FB (in)